# EAGLE library part 691233710006 (library Eagle_WR-TBL Rising Cage Clamp (rev20a))
WR-TBL Serie 2337 - 5.00 mm Double Level Horiz. Entry Modular w. Rising Cage KIND PROPERTIES Pitch 5 mm MATERIAL PROPERTIES Insulator Material PA66 Insulator Flammability Rating UL94 V-0 Contact Material Brass Contact Plating Tin Terminal Screw Material Steel Terminal Screw Plating Zinc Wire Guard Material Stainless Steel GENERAL INFORMATION Operating Temperature -40 up to +105 °C Compliance Lead free / RoHS ELECTRICAL PROPERTIES IR UL 20 A Working Voltage [UL] 300 V (AC) Withstanding Voltage [UL] 1600 V (AC) Contact Resistance [UL] 20 mΩ MECHANICAL PROPERTIES Wire Strip Length 6 up to 7 (mm) Screw M3 CERTIFICATION UL Approval E315414 PACKAGING PROPERTIES Packaging Box <https://www.we-online.com/catalog/media/o33249v209%20Family_WR-TBL_69123371000x.jpg> Details see: https://www.we-online.com/catalog/en/TBL_5_00_2337_DOUBLE_LEVEL_HORIZONTAL_ENTRY_MODULAR_W_RISING_CAGE_6912337100XX/ Updated by Ella Wu 2019-11-5 2019(C) Wurth Elektronik
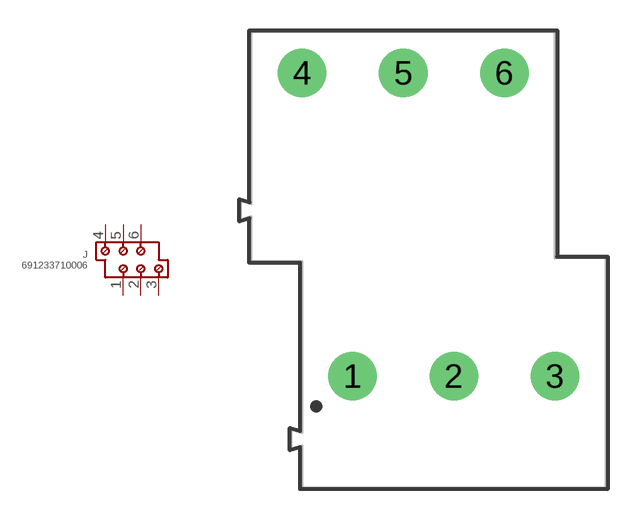
[diagram p5: symbol with the pads of 691233710006; footprint 691233710006]

Designator prefix J

## 691233710006 (DATASHEET-URL: https://www.we-online.com/catalog/datasheet/691233710006.pdf; IR-UL: 20A; MOUNT: THT; PART-NUMBER: 691233710006; PINS: 6; PITCH: 5mm; TYPE: Double Level Horizontal; WIRE: 12 to 22 (AWG) 3.31 to 0.326 (mm²); WORKING-VOLTAGE-UL: 30V (AC))  [691233710006]
1  1  pas
2  2  pas
3  3  pas
4  4  pas
5  5  pas
6  6  pas

## Footprint 691233710006 (pad centres in mm)
WR-TBL Serie 2337 - 5.00 mm Double Level Horiz. Entry Modular w. Rising Cage Max Height =31.5mm , Pitch 5mm , 6 Pins
drill 1.6: 1 -5,0; 2 0,0; 3 5,0; 4 -7.5,15; 5 -2.5,15; 6 2.5,15